# EAGLE library part OPA2320AIDGKT (library novaXR)
OPA2320AIDGKT, Dual Operational Amplifier Precision, 20MHz R-R, 1.8 to 5.5V, 8-Pin MSOP Source: Datasheet <http://www.ti.com/lit/ds/symlink/opa2320.pdf>
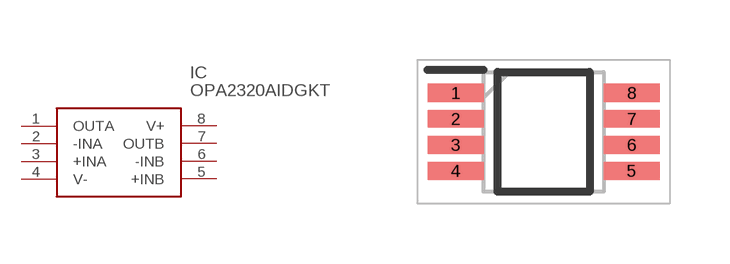
[diagram p4: symbol with the pads of SOP65P490X110-8N; footprint SOP65P490X110-8N]

Designator prefix IC

## OPA2320AIDGKT (DESCRIPTION: OPA2320AIDGKT, Dual Operational Amplifier Precision, 20MHz R-R, 1.8 to 5.5V, 8-Pin MSOP; HEIGHT: 1.1mm; MANUFACTURER_NAME: Texas Instruments; MANUFACTURER_PART_NUMBER: OPA2320AIDGKT; MOUSER_PART_NUMBER: 595-OPA2320AIDGKT; MOUSER_PRICE-STOCK: https://www.mouser.com/Search/Refine.aspx?Keyword=595-OPA2320AIDGKT; RS_PART_NUMBER: 7300607P; RS_PRICE-STOCK: http://uk.rs-online.com/web/p/products/7300607P)  [SOP65P490X110-8N]
1  OUTA  out
2  -INA  in
3  +INA  in
4  V-
5  +INB  in
6  -INB  in
7  OUTB  out
8  V+

## Footprint SOP65P490X110-8N (pad centres in mm)
DGK (S-PDSO-G8)
smd 1.4 x 0.45: 1 -2.2,0.975; 2 -2.2,0.325; 3 -2.2,-0.325; 4 -2.2,-0.975; 5 2.2,-0.975; 6 2.2,-0.325; 7 2.2,0.325; 8 2.2,0.975